# Altium footprint library CONN-20021321-00034T4LF.PcbLib: 1 footprints
Each footprint in its own frame and in the unit in brackets; x right, y up, seen from the top. Pads: shape width x height; smd on the part's side, far side on the other; paste and mask are expansions set on the pad; w line width, h text height; cw(c..) or ccw(c..) is an arc to the next point about the centre after c.
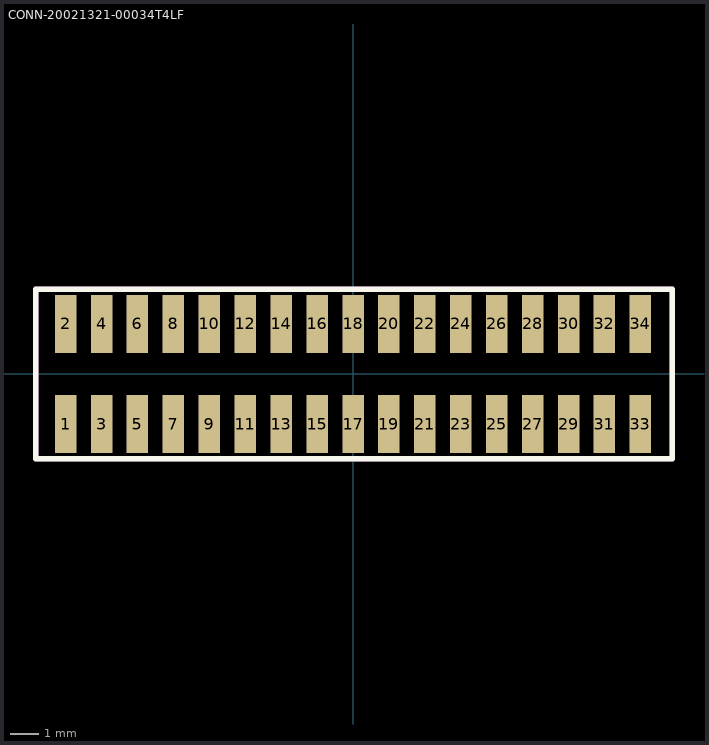
[diagram p0: the footprint, top view; thin cyan lines are the x and y axes]

## CONN-20021321-00034T4LF [mm]
height 4.5
pads (34):
  rect 0.76x2.05 smd mask+0.015: 1(-10.16,-1.775) 2(-10.16,1.775) 3(-8.89,-1.775) 4(-8.89,1.775) 5(-7.62,-1.775) 6(-7.62,1.775) 7(-6.35,-1.775) 8(-6.35,1.775) 9(-5.08,-1.775) 10(-5.08,1.775) 11(-3.81,-1.775) 12(-3.81,1.775) 13(-2.54,-1.775) 14(-2.54,1.775) 15(-1.27,-1.775) 16(-1.27,1.775) 17(0,-1.775) 18(0,1.775) 19(1.27,-1.775) 20(1.27,1.775) 21(2.54,-1.775) 22(2.54,1.775) 23(3.81,-1.775) 24(3.81,1.775) 25(5.08,-1.775) 26(5.08,1.775) 27(6.35,-1.775) 28(6.35,1.775) 29(7.62,-1.775) 30(7.62,1.775) 31(8.89,-1.775) 32(8.89,1.775) 33(10.16,-1.775) 34(10.16,1.775)
Top Overlay:
  lines w0.2: -11.215,-3 -11.215,3 11.285,3 11.285,-3 -11.215,-3
Top Assembly:
  lines w0.2: -11.215,-3 -11.215,3 11.285,3 11.285,-3 -11.215,-3
  text "'.Designator'" at -5.715,0 h0.7
3D body "20021321-1034xxlfc.stp": height 4.5, standoff 0, extent -11.025,-2.25 11.025,2.25